# Altium integrated library Linear Technology Power Management LED Driver ICs.IntLib: 490 symbols (part 38 of 48)
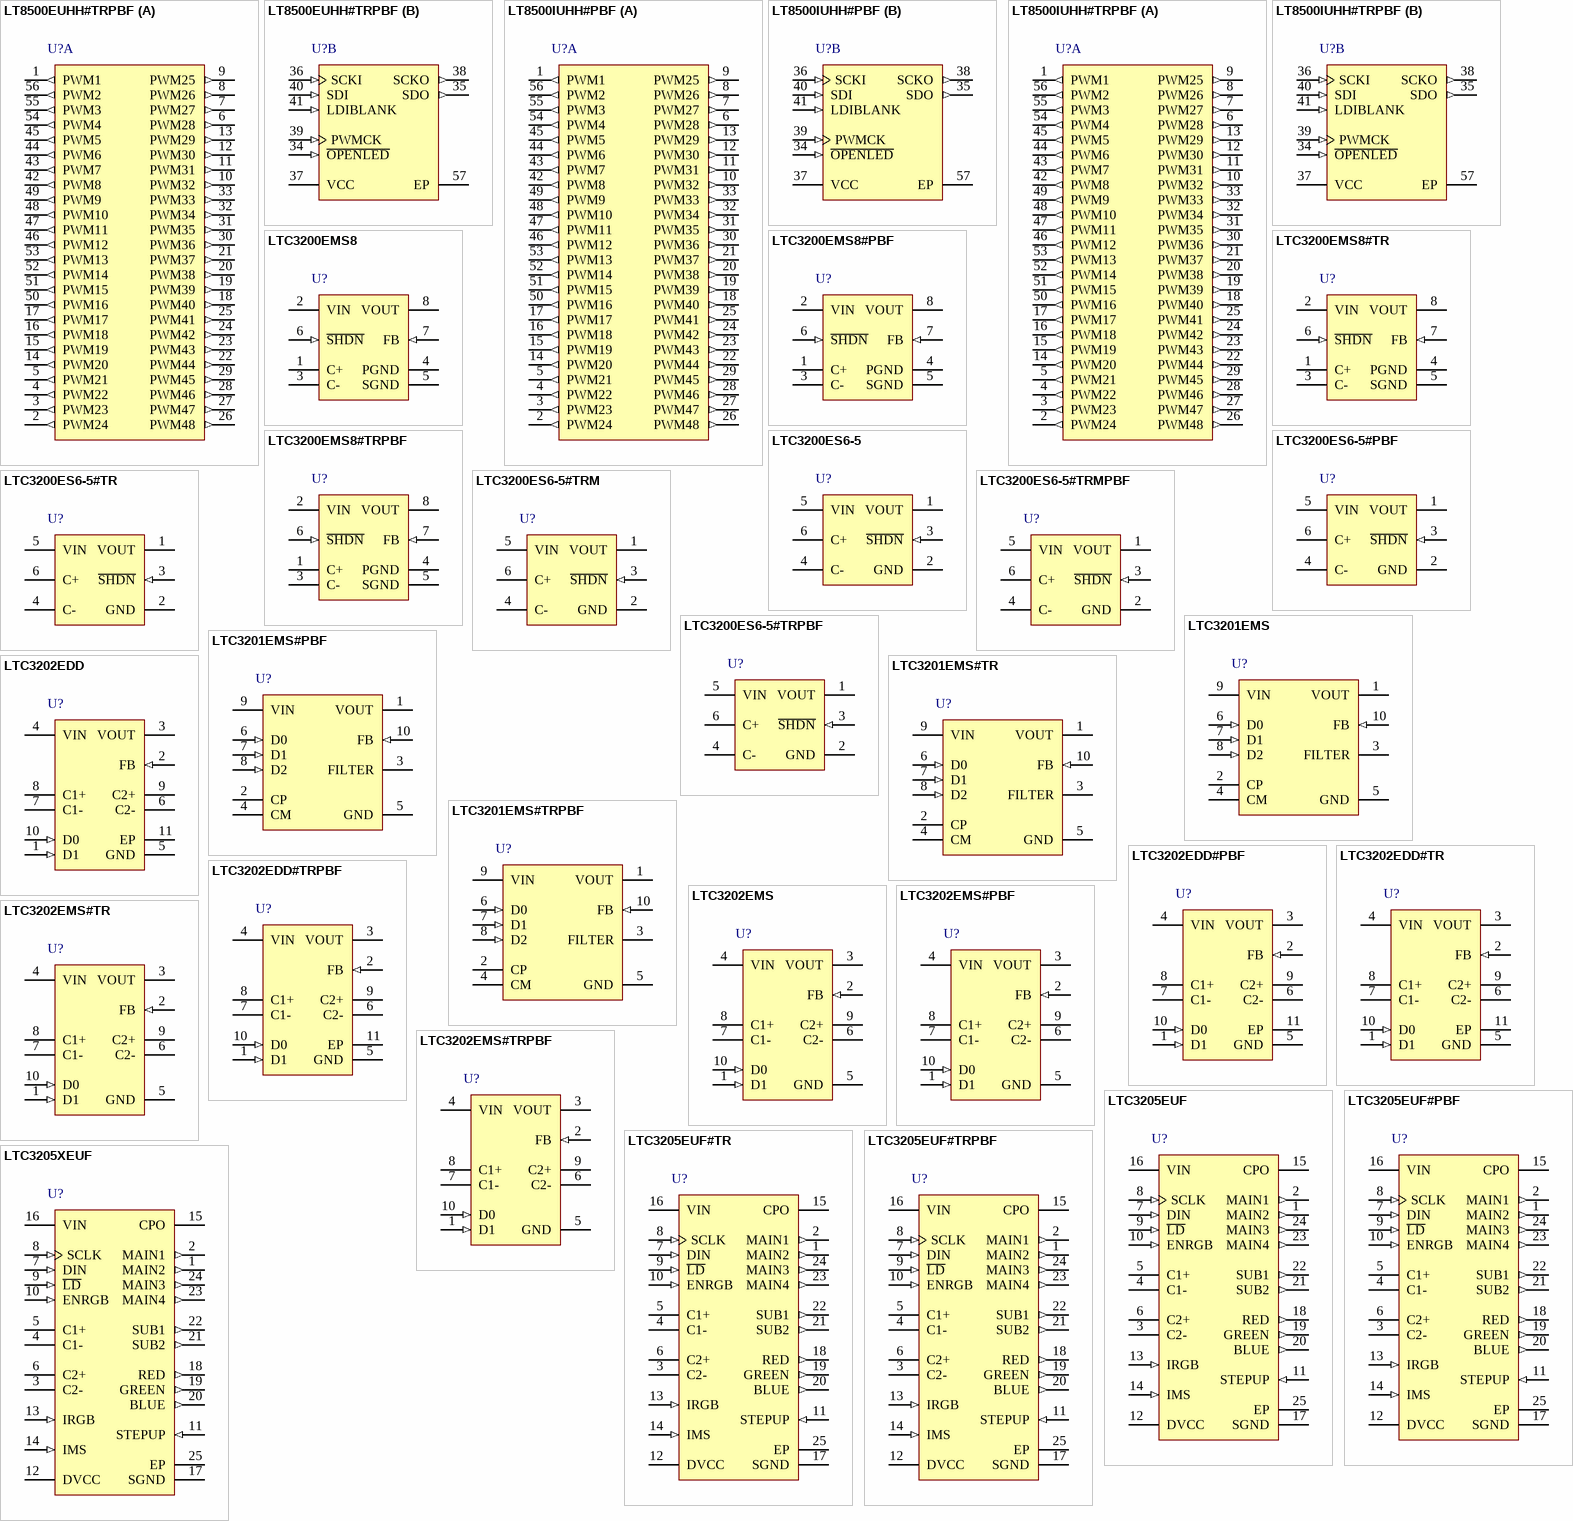
[diagram p57: symbols LT8500EUHH#TRPBF to LTC3205XEUF]

## LTC3205EUF#TRPBF
designator U?
Drives 4 Main LEDs, 2 Sub Display, 1 RGB, 2.8 to 4.5 V Vin, 4.5 V Vout MAX, 24-pin QFN (UF-24), -40 to 85 degC, Pb-Free, Tape and Reel; Manufacturer: Linear Technology; PartNumber: LTC3205EUF#TRPBF; Topology: Charge Pump, LED Driver; Vin Min(V): 2.8; PackageVersion: Rev. B, 02/2012; PackageReference: UF24; PackageDescription: 24-Pin Plastic QFN, Body 4 x 4 mm, Pitch 0.5 mm; Supplier 1: Digi-Key; Supplier Part Number 1: LTC3205EUF#TRPBF-ND; Packing: Tape and Reel; RoHS: TRUE; Mounting Technology: Surface Mount; Code_JEDEC: MO-220; ComponentLink1Description: Manufacturer URL; ComponentLink1URL: http://www.linear.com/; ComponentLink2Description: Datasheet; ComponentLink2URL: http://cds.linear.com/docs/en/datasheet/3205f.pdf; ComponentLink3Description: Package Specification; ComponentLink3URL: http://cds.linear.com/docs/en/packaging/%28UF24%29%20QFN%2005-08-1697%20Rev%20B.pdf
footprint LT-UF-24_N (QFN, 24-Leads, Body 4.1x4.1mm, Pitch 0.5mm, Thermal Pad 2.45x2.45mm, IPC Medium Density)
footprint LT-UF-24_L (QFN, 24-Leads, Body 4.1x4.1mm, Pitch 0.5mm, Thermal Pad 2.45x2.45mm, IPC High Density)
footprint LT-UF-24_M (QFN, 24-Leads, Body 4.1x4.1mm, Pitch 0.5mm, Thermal Pad 2.45x2.45mm, IPC Low Density)
pins: 1 MAIN2 (out) "Current Source Outputs for the Main Display White LEDs. The current for the main display is controlled by the resistor on the IMS pin. The LEDs on the main display can be set to 100%, 50%, 25% or 0% of full-scale programmed (See Datasheet)", 2 MAIN1 (out) "Current Source Outputs for the Main Display White LEDs. The current for the main display is controlled by the resistor on the IMS pin. The LEDs on the main display can be set to 100%, 50%, 25% or 0% of full-scale programmed (See Datasheet)", 3 C2- "Charge Pump Flying Capacitor Pins. A 1uF X7R or X5R ceramic capacitor should be connected from C1+ to C1- and another from C2+ to C2-.", 4 C1- "Charge Pump Flying Capacitor Pins. A 1uF X7R or X5R ceramic capacitor should be connected from C1+ to C1- and another from C2+ to C2-.", 5 C1+ "Charge Pump Flying Capacitor Pins. A 1uF X7R or X5R ceramic capacitor should be connected from C1+ to C1- and another from C2+ to C2-.", 6 C2+ "Charge Pump Flying Capacitor Pins. A 1uF X7R or X5R ceramic capacitor should be connected from C1+ to C1- and another from C2+ to C2-.", 7 DIN (in) "Input Data for the 16-Bit Serial Port. Serial data is shifted in one bit per clock to control the LTC3205 (see Table 1). The logic level for DIN is referenced to DVCC.", 8 SCLK (in) "Clock Input for the 16-Bit Serial Port (see Figure 3). The logic level for SCLK is referenced to DVCC.", 9 ~{LD} (in) "Load Input for the 16-Bit Serial Port. Command data is loaded into the command latch on the falling edge of L\D\ (see Figure 3). The logic level for L\D\ is referenced to DVCC.", 10 ENRGB (in) "This pin is used to enable and disable the red, green and blue current sources. Once ENRGB is brought high, the LTC3205 illuminates the RGB display with the color combination that was previously programmed via the serial (See Datasheet)", 11 STEPUP (in) "A logic high on this pin forces the LTC3205’s charge pump to operate in 2:3 step-up mode, thereby eliminating any possibility of the device switching from 1:1 mode to 2:3 mode during critical communication periods. Th(See Datasheet)", 12 DVCC (power) "This pin sets the logic reference level of the LTC3205.", 13 IRGB (in) "This pin controls the amount of LED current at the RED, GREEN and BLUE LED pins. The IRGB pin servos to 1.223V when there is a resistor to ground. The current in the RED, GREEN and BLUE LEDs will be 400 times the current at (See Datasheet)", 14 IMS (in) "This pin controls the maximum amount of LED current in both the main and sub LED displays. The IMS pin servos to 1.223V when there is a resistor to ground. The currents in the main and sub display LEDs will be 100, 200 or (See Datasheet)", 15 CPO (power) "Output of the Charge Pump. This output should be used to power white, blue and "ture" green LEDs. Red LEDs can be powered from VIN or CPO. An X5R or X7R low impedance (ceramic) 1uF charge storage capacitor is required(See Datasheet)", 16 VIN (power) "Supply Voltage for the Charge Pump. The VIN pin should be connected directly to the battery and bypassed with a 1uF X5R or X7R ceramic capacitor.", 17 SGND (power) "Ground for the Control Logic. This pin should be connected directly to a low impedance ground plane.", 18 RED (out) "Current Source Outputs for the RGB Illuminator LEDs. The currents for the RGB LEDs are controlled by the resistor on the IRGB pin. The RGB LEDs can independently be set to any duty cycle from 0/15 through 15/15 under (See Datasheet)", 19 GREEN (out) "Current Source Outputs for the RGB Illuminator LEDs. The currents for the RGB LEDs are controlled by the resistor on the IRGB pin. The RGB LEDs can independently be set to any duty cycle from 0/15 through 15/15 under (See Datasheet)", 20 BLUE (out) "Current Source Outputs for the RGB Illuminator LEDs. The currents for the RGB LEDs are controlled by the resistor on the IRGB pin. The RGB LEDs can independently be set to any duty cycle from 0/15 through 15/15 under (See Datasheet)", 21 SUB2 (out) "Current Source Outputs for the Sub Display White LEDs. The current for the sub display is controlled by the resistor on the IMS pin. The LEDs on the sub display can be set to 100%, 50%, 25% or 0% of full scale under software (See Datasheet)", 22 SUB1 (out) "Current Source Outputs for the Sub Display White LEDs. The current for the sub display is controlled by the resistor on the IMS pin. The LEDs on the sub display can be set to 100%, 50%, 25% or 0% of full scale under software (See Datasheet)", 23 MAIN4 (out) "Current Source Outputs for the Main Display White LEDs. The current for the main display is controlled by the resistor on the IMS pin. The LEDs on the main display can be set to 100%, 50%, 25% or 0% of full-scale programmed (See Datasheet)", 24 MAIN3 (out) "Current Source Outputs for the Main Display White LEDs. The current for the main display is controlled by the resistor on the IMS pin. The LEDs on the main display can be set to 100%, 50%, 25% or 0% of full-scale programmed (See Datasheet)", 25 EP (power) "Power Ground for the Charge Pump. The exposed pad should be connected directly to a low impedance ground plane."

## LTC3205XEUF
designator U?
Drives 4 Main LEDs, 2 Sub Display, 1 RGB, 2.8 to 4.5 V Vin, 4.5 V Vout MAX, 24-pin QFN (UF-24), -40 to 85 degC; Manufacturer: Linear Technology; PartNumber: LTC3205XEUF; Topology: Charge Pump, LED Driver; Vin Min(V): 2.8; PackageVersion: Rev. B, 02/2012; PackageReference: UF24; PackageDescription: 24-Pin Plastic QFN, Body 4 x 4 mm, Pitch 0.5 mm; RoHS: FALSE; Mounting Technology: Surface Mount; Code_JEDEC: MO-220; ComponentLink1Description: Manufacturer URL; ComponentLink1URL: http://www.linear.com/; ComponentLink2Description: Datasheet; ComponentLink2URL: http://cds.linear.com/docs/en/datasheet/3205f.pdf; ComponentLink3Description: Package Specification; ComponentLink3URL: http://cds.linear.com/docs/en/packaging/%28UF24%29%20QFN%2005-08-1697%20Rev%20B.pdf
footprint LT-UF-24_N (QFN, 24-Leads, Body 4.1x4.1mm, Pitch 0.5mm, Thermal Pad 2.45x2.45mm, IPC Medium Density)
footprint LT-UF-24_L (QFN, 24-Leads, Body 4.1x4.1mm, Pitch 0.5mm, Thermal Pad 2.45x2.45mm, IPC High Density)
footprint LT-UF-24_M (QFN, 24-Leads, Body 4.1x4.1mm, Pitch 0.5mm, Thermal Pad 2.45x2.45mm, IPC Low Density)
pins: 1 MAIN2 (out) "Current Source Outputs for the Main Display White LEDs. The current for the main display is controlled by the resistor on the IMS pin. The LEDs on the main display can be set to 100%, 50%, 25% or 0% of full-scale programmed (See Datasheet)", 2 MAIN1 (out) "Current Source Outputs for the Main Display White LEDs. The current for the main display is controlled by the resistor on the IMS pin. The LEDs on the main display can be set to 100%, 50%, 25% or 0% of full-scale programmed (See Datasheet)", 3 C2- "Charge Pump Flying Capacitor Pins. A 1uF X7R or X5R ceramic capacitor should be connected from C1+ to C1- and another from C2+ to C2-.", 4 C1- "Charge Pump Flying Capacitor Pins. A 1uF X7R or X5R ceramic capacitor should be connected from C1+ to C1- and another from C2+ to C2-.", 5 C1+ "Charge Pump Flying Capacitor Pins. A 1uF X7R or X5R ceramic capacitor should be connected from C1+ to C1- and another from C2+ to C2-.", 6 C2+ "Charge Pump Flying Capacitor Pins. A 1uF X7R or X5R ceramic capacitor should be connected from C1+ to C1- and another from C2+ to C2-.", 7 DIN (in) "Input Data for the 16-Bit Serial Port. Serial data is shifted in one bit per clock to control the LTC3205 (see Table 1). The logic level for DIN is referenced to DVCC.", 8 SCLK (in) "Clock Input for the 16-Bit Serial Port (see Figure 3). The logic level for SCLK is referenced to DVCC.", 9 ~{LD} (in) "Load Input for the 16-Bit Serial Port. Command data is loaded into the command latch on the falling edge of L\D\ (see Figure 3). The logic level for L\D\ is referenced to DVCC.", 10 ENRGB (in) "This pin is used to enable and disable the red, green and blue current sources. Once ENRGB is brought high, the LTC3205 illuminates the RGB display with the color combination that was previously programmed via the serial (See Datasheet)", 11 STEPUP (in) "A logic high on this pin forces the LTC3205’s charge pump to operate in 2:3 step-up mode, thereby eliminating any possibility of the device switching from 1:1 mode to 2:3 mode during critical communication periods. Th(See Datasheet)", 12 DVCC (power) "This pin sets the logic reference level of the LTC3205.", 13 IRGB (in) "This pin controls the amount of LED current at the RED, GREEN and BLUE LED pins. The IRGB pin servos to 1.223V when there is a resistor to ground. The current in the RED, GREEN and BLUE LEDs will be 400 times the current at (See Datasheet)", 14 IMS (in) "This pin controls the maximum amount of LED current in both the main and sub LED displays. The IMS pin servos to 1.223V when there is a resistor to ground. The currents in the main and sub display LEDs will be 100, 200 or (See Datasheet)", 15 CPO (power) "Output of the Charge Pump. This output should be used to power white, blue and "ture" green LEDs. Red LEDs can be powered from VIN or CPO. An X5R or X7R low impedance (ceramic) 1uF charge storage capacitor is required(See Datasheet)", 16 VIN (power) "Supply Voltage for the Charge Pump. The VIN pin should be connected directly to the battery and bypassed with a 1uF X5R or X7R ceramic capacitor.", 17 SGND (power) "Ground for the Control Logic. This pin should be connected directly to a low impedance ground plane.", 18 RED (out) "Current Source Outputs for the RGB Illuminator LEDs. The currents for the RGB LEDs are controlled by the resistor on the IRGB pin. The RGB LEDs can independently be set to any duty cycle from 0/15 through 15/15 under (See Datasheet)", 19 GREEN (out) "Current Source Outputs for the RGB Illuminator LEDs. The currents for the RGB LEDs are controlled by the resistor on the IRGB pin. The RGB LEDs can independently be set to any duty cycle from 0/15 through 15/15 under (See Datasheet)", 20 BLUE (out) "Current Source Outputs for the RGB Illuminator LEDs. The currents for the RGB LEDs are controlled by the resistor on the IRGB pin. The RGB LEDs can independently be set to any duty cycle from 0/15 through 15/15 under (See Datasheet)", 21 SUB2 (out) "Current Source Outputs for the Sub Display White LEDs. The current for the sub display is controlled by the resistor on the IMS pin. The LEDs on the sub display can be set to 100%, 50%, 25% or 0% of full scale under software (See Datasheet)", 22 SUB1 (out) "Current Source Outputs for the Sub Display White LEDs. The current for the sub display is controlled by the resistor on the IMS pin. The LEDs on the sub display can be set to 100%, 50%, 25% or 0% of full scale under software (See Datasheet)", 23 MAIN4 (out) "Current Source Outputs for the Main Display White LEDs. The current for the main display is controlled by the resistor on the IMS pin. The LEDs on the main display can be set to 100%, 50%, 25% or 0% of full-scale programmed (See Datasheet)", 24 MAIN3 (out) "Current Source Outputs for the Main Display White LEDs. The current for the main display is controlled by the resistor on the IMS pin. The LEDs on the main display can be set to 100%, 50%, 25% or 0% of full-scale programmed (See Datasheet)", 25 EP (power) "Power Ground for the Charge Pump. The exposed pad should be connected directly to a low impedance ground plane."

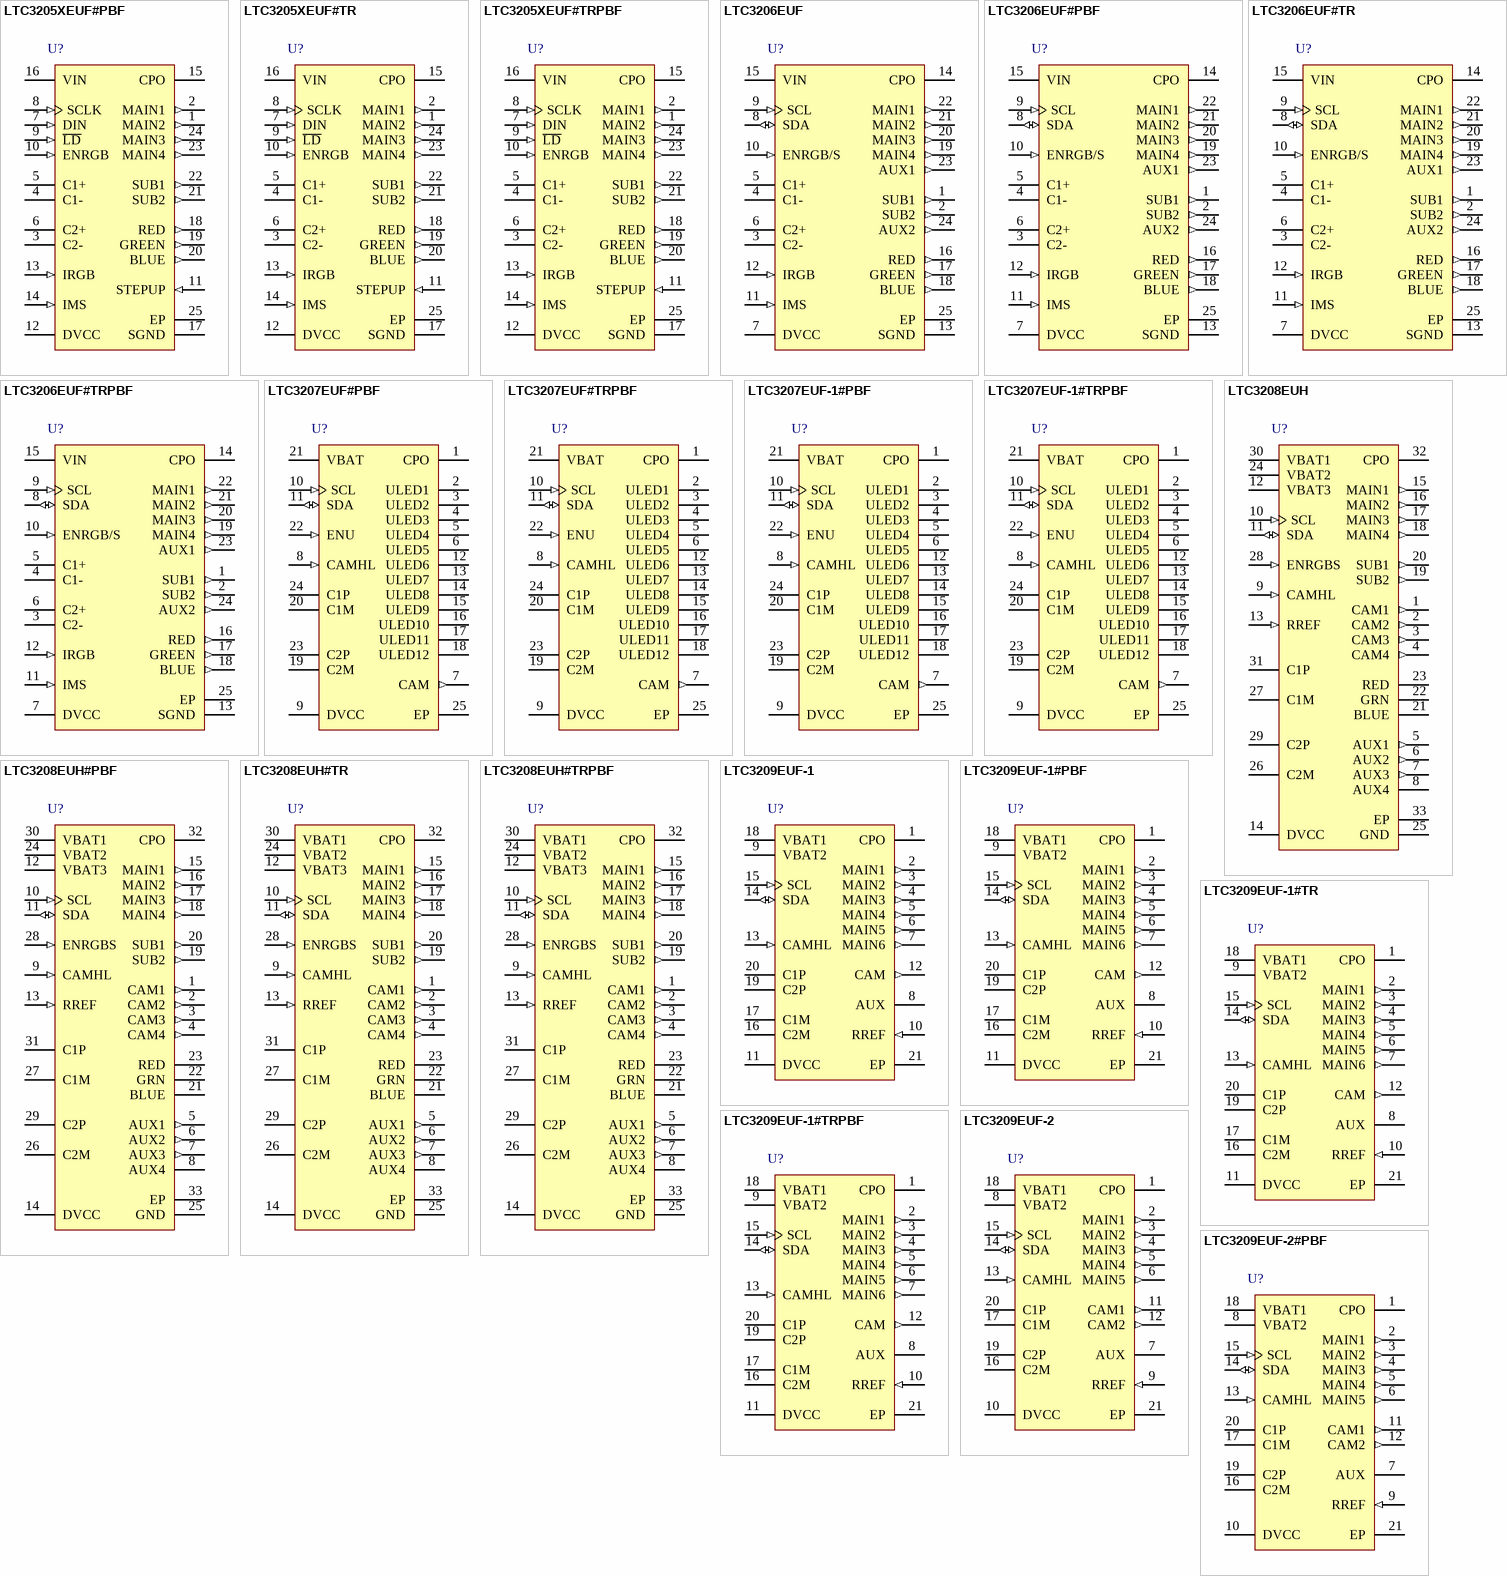
[diagram p16: symbols LTC3205XEUF#PBF to LTC3209EUF-2#PBF]

## LTC3205XEUF#PBF
designator U?
Drives 4 Main LEDs, 2 Sub Display, 1 RGB, 2.8 to 4.5 V Vin, 4.5 V Vout MAX, 24-pin QFN (UF-24), -40 to 85 degC, Pb-Free; Manufacturer: Linear Technology; PartNumber: LTC3205XEUF#PBF; Topology: Charge Pump, LED Driver; Vin Min(V): 2.8; PackageVersion: Rev. B, 02/2012; PackageReference: UF24; PackageDescription: 24-Pin Plastic QFN, Body 4 x 4 mm, Pitch 0.5 mm; Supplier 1: Digi-Key; Supplier Part Number 1: LTC3205XEUF#PBF-ND; RoHS: TRUE; Mounting Technology: Surface Mount; Code_JEDEC: MO-220; ComponentLink1Description: Manufacturer URL; ComponentLink1URL: http://www.linear.com/; ComponentLink2Description: Datasheet; ComponentLink2URL: http://cds.linear.com/docs/en/datasheet/3205f.pdf; ComponentLink3Description: Package Specification; ComponentLink3URL: http://cds.linear.com/docs/en/packaging/%28UF24%29%20QFN%2005-08-1697%20Rev%20B.pdf
footprint LT-UF-24_N (QFN, 24-Leads, Body 4.1x4.1mm, Pitch 0.5mm, Thermal Pad 2.45x2.45mm, IPC Medium Density)
footprint LT-UF-24_L (QFN, 24-Leads, Body 4.1x4.1mm, Pitch 0.5mm, Thermal Pad 2.45x2.45mm, IPC High Density)
footprint LT-UF-24_M (QFN, 24-Leads, Body 4.1x4.1mm, Pitch 0.5mm, Thermal Pad 2.45x2.45mm, IPC Low Density)
pins: 1 MAIN2 (out) "Current Source Outputs for the Main Display White LEDs. The current for the main display is controlled by the resistor on the IMS pin. The LEDs on the main display can be set to 100%, 50%, 25% or 0% of full-scale programmed (See Datasheet)", 2 MAIN1 (out) "Current Source Outputs for the Main Display White LEDs. The current for the main display is controlled by the resistor on the IMS pin. The LEDs on the main display can be set to 100%, 50%, 25% or 0% of full-scale programmed (See Datasheet)", 3 C2- "Charge Pump Flying Capacitor Pins. A 1uF X7R or X5R ceramic capacitor should be connected from C1+ to C1- and another from C2+ to C2-.", 4 C1- "Charge Pump Flying Capacitor Pins. A 1uF X7R or X5R ceramic capacitor should be connected from C1+ to C1- and another from C2+ to C2-.", 5 C1+ "Charge Pump Flying Capacitor Pins. A 1uF X7R or X5R ceramic capacitor should be connected from C1+ to C1- and another from C2+ to C2-.", 6 C2+ "Charge Pump Flying Capacitor Pins. A 1uF X7R or X5R ceramic capacitor should be connected from C1+ to C1- and another from C2+ to C2-.", 7 DIN (in) "Input Data for the 16-Bit Serial Port. Serial data is shifted in one bit per clock to control the LTC3205 (see Table 1). The logic level for DIN is referenced to DVCC.", 8 SCLK (in) "Clock Input for the 16-Bit Serial Port (see Figure 3). The logic level for SCLK is referenced to DVCC.", 9 ~{LD} (in) "Load Input for the 16-Bit Serial Port. Command data is loaded into the command latch on the falling edge of L\D\ (see Figure 3). The logic level for L\D\ is referenced to DVCC.", 10 ENRGB (in) "This pin is used to enable and disable the red, green and blue current sources. Once ENRGB is brought high, the LTC3205 illuminates the RGB display with the color combination that was previously programmed via the serial (See Datasheet)", 11 STEPUP (in) "A logic high on this pin forces the LTC3205’s charge pump to operate in 2:3 step-up mode, thereby eliminating any possibility of the device switching from 1:1 mode to 2:3 mode during critical communication periods. Th(See Datasheet)", 12 DVCC (power) "This pin sets the logic reference level of the LTC3205.", 13 IRGB (in) "This pin controls the amount of LED current at the RED, GREEN and BLUE LED pins. The IRGB pin servos to 1.223V when there is a resistor to ground. The current in the RED, GREEN and BLUE LEDs will be 400 times the current at (See Datasheet)", 14 IMS (in) "This pin controls the maximum amount of LED current in both the main and sub LED displays. The IMS pin servos to 1.223V when there is a resistor to ground. The currents in the main and sub display LEDs will be 100, 200 or (See Datasheet)", 15 CPO (power) "Output of the Charge Pump. This output should be used to power white, blue and "ture" green LEDs. Red LEDs can be powered from VIN or CPO. An X5R or X7R low impedance (ceramic) 1uF charge storage capacitor is required(See Datasheet)", 16 VIN (power) "Supply Voltage for the Charge Pump. The VIN pin should be connected directly to the battery and bypassed with a 1uF X5R or X7R ceramic capacitor.", 17 SGND (power) "Ground for the Control Logic. This pin should be connected directly to a low impedance ground plane.", 18 RED (out) "Current Source Outputs for the RGB Illuminator LEDs. The currents for the RGB LEDs are controlled by the resistor on the IRGB pin. The RGB LEDs can independently be set to any duty cycle from 0/15 through 15/15 under (See Datasheet)", 19 GREEN (out) "Current Source Outputs for the RGB Illuminator LEDs. The currents for the RGB LEDs are controlled by the resistor on the IRGB pin. The RGB LEDs can independently be set to any duty cycle from 0/15 through 15/15 under (See Datasheet)", 20 BLUE (out) "Current Source Outputs for the RGB Illuminator LEDs. The currents for the RGB LEDs are controlled by the resistor on the IRGB pin. The RGB LEDs can independently be set to any duty cycle from 0/15 through 15/15 under (See Datasheet)", 21 SUB2 (out) "Current Source Outputs for the Sub Display White LEDs. The current for the sub display is controlled by the resistor on the IMS pin. The LEDs on the sub display can be set to 100%, 50%, 25% or 0% of full scale under software (See Datasheet)", 22 SUB1 (out) "Current Source Outputs for the Sub Display White LEDs. The current for the sub display is controlled by the resistor on the IMS pin. The LEDs on the sub display can be set to 100%, 50%, 25% or 0% of full scale under software (See Datasheet)", 23 MAIN4 (out) "Current Source Outputs for the Main Display White LEDs. The current for the main display is controlled by the resistor on the IMS pin. The LEDs on the main display can be set to 100%, 50%, 25% or 0% of full-scale programmed (See Datasheet)", 24 MAIN3 (out) "Current Source Outputs for the Main Display White LEDs. The current for the main display is controlled by the resistor on the IMS pin. The LEDs on the main display can be set to 100%, 50%, 25% or 0% of full-scale programmed (See Datasheet)", 25 EP (power) "Power Ground for the Charge Pump. The exposed pad should be connected directly to a low impedance ground plane."

## LTC3205XEUF#TR
designator U?
Drives 4 Main LEDs, 2 Sub Display, 1 RGB, 2.8 to 4.5 V Vin, 4.5 V Vout MAX, 24-pin QFN (UF-24), -40 to 85 degC, Tape and Reel; Manufacturer: Linear Technology; PartNumber: LTC3205XEUF#TR; Topology: Charge Pump, LED Driver; Vin Min(V): 2.8; PackageVersion: Rev. B, 02/2012; PackageReference: UF24; PackageDescription: 24-Pin Plastic QFN, Body 4 x 4 mm, Pitch 0.5 mm; Packing: Tape and Reel; RoHS: FALSE; Mounting Technology: Surface Mount; Code_JEDEC: MO-220; ComponentLink1Description: Manufacturer URL; ComponentLink1URL: http://www.linear.com/; ComponentLink2Description: Datasheet; ComponentLink2URL: http://cds.linear.com/docs/en/datasheet/3205f.pdf; ComponentLink3Description: Package Specification; ComponentLink3URL: http://cds.linear.com/docs/en/packaging/%28UF24%29%20QFN%2005-08-1697%20Rev%20B.pdf
footprint LT-UF-24_N (QFN, 24-Leads, Body 4.1x4.1mm, Pitch 0.5mm, Thermal Pad 2.45x2.45mm, IPC Medium Density)
footprint LT-UF-24_L (QFN, 24-Leads, Body 4.1x4.1mm, Pitch 0.5mm, Thermal Pad 2.45x2.45mm, IPC High Density)
footprint LT-UF-24_M (QFN, 24-Leads, Body 4.1x4.1mm, Pitch 0.5mm, Thermal Pad 2.45x2.45mm, IPC Low Density)
pins: 1 MAIN2 (out) "Current Source Outputs for the Main Display White LEDs. The current for the main display is controlled by the resistor on the IMS pin. The LEDs on the main display can be set to 100%, 50%, 25% or 0% of full-scale programmed (See Datasheet)", 2 MAIN1 (out) "Current Source Outputs for the Main Display White LEDs. The current for the main display is controlled by the resistor on the IMS pin. The LEDs on the main display can be set to 100%, 50%, 25% or 0% of full-scale programmed (See Datasheet)", 3 C2- "Charge Pump Flying Capacitor Pins. A 1uF X7R or X5R ceramic capacitor should be connected from C1+ to C1- and another from C2+ to C2-.", 4 C1- "Charge Pump Flying Capacitor Pins. A 1uF X7R or X5R ceramic capacitor should be connected from C1+ to C1- and another from C2+ to C2-.", 5 C1+ "Charge Pump Flying Capacitor Pins. A 1uF X7R or X5R ceramic capacitor should be connected from C1+ to C1- and another from C2+ to C2-.", 6 C2+ "Charge Pump Flying Capacitor Pins. A 1uF X7R or X5R ceramic capacitor should be connected from C1+ to C1- and another from C2+ to C2-.", 7 DIN (in) "Input Data for the 16-Bit Serial Port. Serial data is shifted in one bit per clock to control the LTC3205 (see Table 1). The logic level for DIN is referenced to DVCC.", 8 SCLK (in) "Clock Input for the 16-Bit Serial Port (see Figure 3). The logic level for SCLK is referenced to DVCC.", 9 ~{LD} (in) "Load Input for the 16-Bit Serial Port. Command data is loaded into the command latch on the falling edge of L\D\ (see Figure 3). The logic level for L\D\ is referenced to DVCC.", 10 ENRGB (in) "This pin is used to enable and disable the red, green and blue current sources. Once ENRGB is brought high, the LTC3205 illuminates the RGB display with the color combination that was previously programmed via the serial (See Datasheet)", 11 STEPUP (in) "A logic high on this pin forces the LTC3205’s charge pump to operate in 2:3 step-up mode, thereby eliminating any possibility of the device switching from 1:1 mode to 2:3 mode during critical communication periods. Th(See Datasheet)", 12 DVCC (power) "This pin sets the logic reference level of the LTC3205.", 13 IRGB (in) "This pin controls the amount of LED current at the RED, GREEN and BLUE LED pins. The IRGB pin servos to 1.223V when there is a resistor to ground. The current in the RED, GREEN and BLUE LEDs will be 400 times the current at (See Datasheet)", 14 IMS (in) "This pin controls the maximum amount of LED current in both the main and sub LED displays. The IMS pin servos to 1.223V when there is a resistor to ground. The currents in the main and sub display LEDs will be 100, 200 or (See Datasheet)", 15 CPO (power) "Output of the Charge Pump. This output should be used to power white, blue and "ture" green LEDs. Red LEDs can be powered from VIN or CPO. An X5R or X7R low impedance (ceramic) 1uF charge storage capacitor is required(See Datasheet)", 16 VIN (power) "Supply Voltage for the Charge Pump. The VIN pin should be connected directly to the battery and bypassed with a 1uF X5R or X7R ceramic capacitor.", 17 SGND (power) "Ground for the Control Logic. This pin should be connected directly to a low impedance ground plane.", 18 RED (out) "Current Source Outputs for the RGB Illuminator LEDs. The currents for the RGB LEDs are controlled by the resistor on the IRGB pin. The RGB LEDs can independently be set to any duty cycle from 0/15 through 15/15 under (See Datasheet)", 19 GREEN (out) "Current Source Outputs for the RGB Illuminator LEDs. The currents for the RGB LEDs are controlled by the resistor on the IRGB pin. The RGB LEDs can independently be set to any duty cycle from 0/15 through 15/15 under (See Datasheet)", 20 BLUE (out) "Current Source Outputs for the RGB Illuminator LEDs. The currents for the RGB LEDs are controlled by the resistor on the IRGB pin. The RGB LEDs can independently be set to any duty cycle from 0/15 through 15/15 under (See Datasheet)", 21 SUB2 (out) "Current Source Outputs for the Sub Display White LEDs. The current for the sub display is controlled by the resistor on the IMS pin. The LEDs on the sub display can be set to 100%, 50%, 25% or 0% of full scale under software (See Datasheet)", 22 SUB1 (out) "Current Source Outputs for the Sub Display White LEDs. The current for the sub display is controlled by the resistor on the IMS pin. The LEDs on the sub display can be set to 100%, 50%, 25% or 0% of full scale under software (See Datasheet)", 23 MAIN4 (out) "Current Source Outputs for the Main Display White LEDs. The current for the main display is controlled by the resistor on the IMS pin. The LEDs on the main display can be set to 100%, 50%, 25% or 0% of full-scale programmed (See Datasheet)", 24 MAIN3 (out) "Current Source Outputs for the Main Display White LEDs. The current for the main display is controlled by the resistor on the IMS pin. The LEDs on the main display can be set to 100%, 50%, 25% or 0% of full-scale programmed (See Datasheet)", 25 EP (power) "Power Ground for the Charge Pump. The exposed pad should be connected directly to a low impedance ground plane."

## LTC3205XEUF#TRPBF
designator U?
Drives 4 Main LEDs, 2 Sub Display, 1 RGB, 2.8 to 4.5 V Vin, 4.5 V Vout MAX, 24-pin QFN (UF-24), -40 to 85 degC, Pb-Free, Tape and Reel; Manufacturer: Linear Technology; PartNumber: LTC3205XEUF#TRPBF; Topology: Charge Pump, LED Driver; Vin Min(V): 2.8; PackageVersion: Rev. B, 02/2012; PackageReference: UF24; PackageDescription: 24-Pin Plastic QFN, Body 4 x 4 mm, Pitch 0.5 mm; Supplier 1: Digi-Key; Supplier Part Number 1: LTC3205XEUF#TRPBF-ND; Packing: Tape and Reel; RoHS: TRUE; Mounting Technology: Surface Mount; Code_JEDEC: MO-220; ComponentLink1Description: Manufacturer URL; ComponentLink1URL: http://www.linear.com/; ComponentLink2Description: Datasheet; ComponentLink2URL: http://cds.linear.com/docs/en/datasheet/3205f.pdf; ComponentLink3Description: Package Specification; ComponentLink3URL: http://cds.linear.com/docs/en/packaging/%28UF24%29%20QFN%2005-08-1697%20Rev%20B.pdf
footprint LT-UF-24_N (QFN, 24-Leads, Body 4.1x4.1mm, Pitch 0.5mm, Thermal Pad 2.45x2.45mm, IPC Medium Density)
footprint LT-UF-24_L (QFN, 24-Leads, Body 4.1x4.1mm, Pitch 0.5mm, Thermal Pad 2.45x2.45mm, IPC High Density)
footprint LT-UF-24_M (QFN, 24-Leads, Body 4.1x4.1mm, Pitch 0.5mm, Thermal Pad 2.45x2.45mm, IPC Low Density)
pins: 1 MAIN2 (out) "Current Source Outputs for the Main Display White LEDs. The current for the main display is controlled by the resistor on the IMS pin. The LEDs on the main display can be set to 100%, 50%, 25% or 0% of full-scale programmed (See Datasheet)", 2 MAIN1 (out) "Current Source Outputs for the Main Display White LEDs. The current for the main display is controlled by the resistor on the IMS pin. The LEDs on the main display can be set to 100%, 50%, 25% or 0% of full-scale programmed (See Datasheet)", 3 C2- "Charge Pump Flying Capacitor Pins. A 1uF X7R or X5R ceramic capacitor should be connected from C1+ to C1- and another from C2+ to C2-.", 4 C1- "Charge Pump Flying Capacitor Pins. A 1uF X7R or X5R ceramic capacitor should be connected from C1+ to C1- and another from C2+ to C2-.", 5 C1+ "Charge Pump Flying Capacitor Pins. A 1uF X7R or X5R ceramic capacitor should be connected from C1+ to C1- and another from C2+ to C2-.", 6 C2+ "Charge Pump Flying Capacitor Pins. A 1uF X7R or X5R ceramic capacitor should be connected from C1+ to C1- and another from C2+ to C2-.", 7 DIN (in) "Input Data for the 16-Bit Serial Port. Serial data is shifted in one bit per clock to control the LTC3205 (see Table 1). The logic level for DIN is referenced to DVCC.", 8 SCLK (in) "Clock Input for the 16-Bit Serial Port (see Figure 3). The logic level for SCLK is referenced to DVCC.", 9 ~{LD} (in) "Load Input for the 16-Bit Serial Port. Command data is loaded into the command latch on the falling edge of L\D\ (see Figure 3). The logic level for L\D\ is referenced to DVCC.", 10 ENRGB (in) "This pin is used to enable and disable the red, green and blue current sources. Once ENRGB is brought high, the LTC3205 illuminates the RGB display with the color combination that was previously programmed via the serial (See Datasheet)", 11 STEPUP (in) "A logic high on this pin forces the LTC3205’s charge pump to operate in 2:3 step-up mode, thereby eliminating any possibility of the device switching from 1:1 mode to 2:3 mode during critical communication periods. Th(See Datasheet)", 12 DVCC (power) "This pin sets the logic reference level of the LTC3205.", 13 IRGB (in) "This pin controls the amount of LED current at the RED, GREEN and BLUE LED pins. The IRGB pin servos to 1.223V when there is a resistor to ground. The current in the RED, GREEN and BLUE LEDs will be 400 times the current at (See Datasheet)", 14 IMS (in) "This pin controls the maximum amount of LED current in both the main and sub LED displays. The IMS pin servos to 1.223V when there is a resistor to ground. The currents in the main and sub display LEDs will be 100, 200 or (See Datasheet)", 15 CPO (power) "Output of the Charge Pump. This output should be used to power white, blue and "ture" green LEDs. Red LEDs can be powered from VIN or CPO. An X5R or X7R low impedance (ceramic) 1uF charge storage capacitor is required(See Datasheet)", 16 VIN (power) "Supply Voltage for the Charge Pump. The VIN pin should be connected directly to the battery and bypassed with a 1uF X5R or X7R ceramic capacitor.", 17 SGND (power) "Ground for the Control Logic. This pin should be connected directly to a low impedance ground plane.", 18 RED (out) "Current Source Outputs for the RGB Illuminator LEDs. The currents for the RGB LEDs are controlled by the resistor on the IRGB pin. The RGB LEDs can independently be set to any duty cycle from 0/15 through 15/15 under (See Datasheet)", 19 GREEN (out) "Current Source Outputs for the RGB Illuminator LEDs. The currents for the RGB LEDs are controlled by the resistor on the IRGB pin. The RGB LEDs can independently be set to any duty cycle from 0/15 through 15/15 under (See Datasheet)", 20 BLUE (out) "Current Source Outputs for the RGB Illuminator LEDs. The currents for the RGB LEDs are controlled by the resistor on the IRGB pin. The RGB LEDs can independently be set to any duty cycle from 0/15 through 15/15 under (See Datasheet)", 21 SUB2 (out) "Current Source Outputs for the Sub Display White LEDs. The current for the sub display is controlled by the resistor on the IMS pin. The LEDs on the sub display can be set to 100%, 50%, 25% or 0% of full scale under software (See Datasheet)", 22 SUB1 (out) "Current Source Outputs for the Sub Display White LEDs. The current for the sub display is controlled by the resistor on the IMS pin. The LEDs on the sub display can be set to 100%, 50%, 25% or 0% of full scale under software (See Datasheet)", 23 MAIN4 (out) "Current Source Outputs for the Main Display White LEDs. The current for the main display is controlled by the resistor on the IMS pin. The LEDs on the main display can be set to 100%, 50%, 25% or 0% of full-scale programmed (See Datasheet)", 24 MAIN3 (out) "Current Source Outputs for the Main Display White LEDs. The current for the main display is controlled by the resistor on the IMS pin. The LEDs on the main display can be set to 100%, 50%, 25% or 0% of full-scale programmed (See Datasheet)", 25 EP (power) "Power Ground for the Charge Pump. The exposed pad should be connected directly to a low impedance ground plane."

## LTC3206EUF
designator U?
Drives 6 Main LEDs, 4 Sub Display, 1 RGB, 2.8 to 4.5 V Vin, 4.5 V Vout MAX, 24-pin QFN (UF-24), -40 to 85 degC; Manufacturer: Linear Technology; PartNumber: LTC3206EUF; Topology: Charge Pump, LED Driver; Vin Min(V): 2.8; PackageVersion: Rev. B, 02/2012; PackageReference: UF24; PackageDescription: 24-Pin Plastic QFN, Body 4 x 4 mm, Pitch 0.5 mm; Supplier 1: Digi-Key; Supplier Part Number 1: LTC3206EUF-ND; RoHS: FALSE; Mounting Technology: Surface Mount; Code_JEDEC: MO-220; ComponentLink1Description: Manufacturer URL; ComponentLink1URL: http://www.linear.com/; ComponentLink2Description: Datasheet; ComponentLink2URL: http://cds.linear.com/docs/en/datasheet/3206f.pdf; ComponentLink3Description: Package Specification; ComponentLink3URL: http://cds.linear.com/docs/en/packaging/%28UF24%29%20QFN%2005-08-1697%20Rev%20B.pdf
footprint LT-UF-24_N (QFN, 24-Leads, Body 4.1x4.1mm, Pitch 0.5mm, Thermal Pad 2.45x2.45mm, IPC Medium Density)
footprint LT-UF-24_L (QFN, 24-Leads, Body 4.1x4.1mm, Pitch 0.5mm, Thermal Pad 2.45x2.45mm, IPC High Density)
footprint LT-UF-24_M (QFN, 24-Leads, Body 4.1x4.1mm, Pitch 0.5mm, Thermal Pad 2.45x2.45mm, IPC Low Density)
pins: 1 SUB1 (out) "Current Source Outputs for the SUB Display White LEDs. The current for the SUB display is controlled by the resistor on the IMS pin.The LEDs on the SUB display can be set to exponentially increasing brightness levels from 0.(See Datasheet)", 2 SUB2 (out) "Current Source Outputs for the SUB Display White LEDs. The current for the SUB display is controlled by the resistor on the IMS pin.The LEDs on the SUB display can be set to exponentially increasing brightness levels from 0.(See Datasheet)", 3 C2- "Charge Pump Flying Capacitor Pins. A 2.2uF X7R or X5R ceramic capacitor should be connected from C1+ to C1- and another from C2+ to C2-.", 4 C1- "Charge Pump Flying Capacitor Pins. A 2.2uF X7R or X5R ceramic capacitor should be connected from C1+ to C1- and another from C2+ to C2-.", 5 C1+ "Charge Pump Flying Capacitor Pins. A 2.2uF X7R or X5R ceramic capacitor should be connected from C1+ to C1- and another from C2+ to C2-.", 6 C2+ "Charge Pump Flying Capacitor Pins. A 2.2uF X7R or X5R ceramic capacitor should be connected from C1+ to C1- and another from C2+ to C2-.", 7 DVCC (power) "This pin sets the logic reference level of the SDA, SCL and ENRGB/S pins.", 8 SDA (io) "Input Data for the I2C Serial Port. Serial data is shifted in one bit per clock to control the LTC3206 (see Figures 3 and 4). The logic level for SDA is referenced to DVCC.", 9 SCL (in) "Clock Input for the I2C Serial Port (see Figures 3 and 4). The logic level for SCL is referenced to DVCC.", 10 ENRGB/S (in) "This pin is used to enable and disable either the RED, GREEN and BLUE current sources or the SUB display depending on which is programmed to respond via the I2C port. Once ENRGB/S is brought high, the LTC3206 illuminates the (See Datasheet)", 11 IMS (in) "This pin controls the maximum amount of LED current in both the MAIN and SUB LED displays. The IMS pin servos to 0.6V when there is a resistor to ground. The full scale (100%) currents in the MAIN and SUB display LEDs will (See Datasheet)", 12 IRGB (in) "This pin controls the amount of LED current at the RED, GREEN and BLUE LED pins. The IRGB pin servos to 0.6V when there is a resistor to ground. The current in the RED, GREEN and BLUE LEDs will be 400 times the current at (See Datasheet)", 13 SGND (power) "Ground for the control logic. This pin should be connected directly to a low impedance ground plane.", 14 CPO (power) "Output of the Charge Pump. This output should be used to power white, blue and "ture" green LEDs. Red LEDs can be powered from VIN or CPO. An X5R or X7R low impedance (ceramic) 2.2uF charge storage capacitor is requi(See Datasheet)", 15 VIN (power) "Supply Voltage for the Charge Pump. The VIN pin should be connected directly to the battery and bypassed with a 2.2uF X5R or X7R ceramic capacitor.", 16 RED (out) "Current Source Outputs for the RGB Illuminator LEDs. The currents for the RGB LEDs are controlled by the resistor on the IRGB pin. The RGB LEDs can independently be set to any duty cycle from 0/15 through 15/15 under (See Datasheet)", 17 GREEN (out) "Current Source Outputs for the RGB Illuminator LEDs. The currents for the RGB LEDs are controlled by the resistor on the IRGB pin. The RGB LEDs can independently be set to any duty cycle from 0/15 through 15/15 under (See Datasheet)", 18 BLUE (out) "Current Source Outputs for the RGB Illuminator LEDs. The currents for the RGB LEDs are controlled by the resistor on the IRGB pin. The RGB LEDs can independently be set to any duty cycle from 0/15 through 15/15 under (See Datasheet)", 19 MAIN4 (out) "Current Source Outputs for the Main Display White LEDs. The current for the main display is controlled by the resistor on the IMS pin. The LEDs on the MAIN display can be set to 16 exponentially increasing brightness steps (See Datasheet)", 20 MAIN3 (out) "Current Source Outputs for the Main Display White LEDs. The current for the main display is controlled by the resistor on the IMS pin. The LEDs on the MAIN display can be set to 16 exponentially increasing brightness steps (See Datasheet)", 21 MAIN2 (out) "Current Source Outputs for the Main Display White LEDs. The current for the main display is controlled by the resistor on the IMS pin. The LEDs on the MAIN display can be set to 16 exponentially increasing brightness steps (See Datasheet)", 22 MAIN1 (out) "Current Source Outputs for the Main Display White LEDs. The current for the main display is controlled by the resistor on the IMS pin. The LEDs on the MAIN display can be set to 16 exponentially increasing brightness steps (See Datasheet)", 23 AUX1 (out) "Current source outputs for the auxiliary white LEDs. The auxiliary current sources can be individually assigned to be either MAIN display or SUB display LEDs via the I2C serial port. When either AUX1 and/ or AUX2 are (See Datasheet)", 24 AUX2 (out) "Current source outputs for the auxiliary white LEDs. The auxiliary current sources can be individually assigned to be either MAIN display or SUB display LEDs via the I2C serial port. When either AUX1 and/ or AUX2 are (See Datasheet)", 25 EP (power) "Power Ground for the Charge Pump. This pin should be connected directly to a low impedance ground plane."

## LTC3206EUF#PBF
designator U?
Drives 6 Main LEDs, 4 Sub Display, 1 RGB, 2.8 to 4.5 V Vin, 4.5 V Vout MAX, 24-pin QFN (UF-24), -40 to 85 degC, Pb-Free; Manufacturer: Linear Technology; PartNumber: LTC3206EUF#PBF; Topology: Charge Pump, LED Driver; Vin Min(V): 2.8; PackageVersion: Rev. B, 02/2012; PackageReference: UF24; PackageDescription: 24-Pin Plastic QFN, Body 4 x 4 mm, Pitch 0.5 mm; Supplier 1: Digi-Key; Supplier Part Number 1: LTC3206EUF#PBF-ND; Supplier 2: Farnell; Supplier Part Number 2: 1226273; RoHS: TRUE; Mounting Technology: Surface Mount; Code_JEDEC: MO-220; ComponentLink1Description: Manufacturer URL; ComponentLink1URL: http://www.linear.com/; ComponentLink2Description: Datasheet; ComponentLink2URL: http://cds.linear.com/docs/en/datasheet/3206f.pdf; ComponentLink3Description: Package Specification; ComponentLink3URL: http://cds.linear.com/docs/en/packaging/%28UF24%29%20QFN%2005-08-1697%20Rev%20B.pdf
footprint LT-UF-24_N (QFN, 24-Leads, Body 4.1x4.1mm, Pitch 0.5mm, Thermal Pad 2.45x2.45mm, IPC Medium Density)
footprint LT-UF-24_L (QFN, 24-Leads, Body 4.1x4.1mm, Pitch 0.5mm, Thermal Pad 2.45x2.45mm, IPC High Density)
footprint LT-UF-24_M (QFN, 24-Leads, Body 4.1x4.1mm, Pitch 0.5mm, Thermal Pad 2.45x2.45mm, IPC Low Density)
pins: 1 SUB1 (out) "Current Source Outputs for the SUB Display White LEDs. The current for the SUB display is controlled by the resistor on the IMS pin.The LEDs on the SUB display can be set to exponentially increasing brightness levels from 0.(See Datasheet)", 2 SUB2 (out) "Current Source Outputs for the SUB Display White LEDs. The current for the SUB display is controlled by the resistor on the IMS pin.The LEDs on the SUB display can be set to exponentially increasing brightness levels from 0.(See Datasheet)", 3 C2- "Charge Pump Flying Capacitor Pins. A 2.2uF X7R or X5R ceramic capacitor should be connected from C1+ to C1- and another from C2+ to C2-.", 4 C1- "Charge Pump Flying Capacitor Pins. A 2.2uF X7R or X5R ceramic capacitor should be connected from C1+ to C1- and another from C2+ to C2-.", 5 C1+ "Charge Pump Flying Capacitor Pins. A 2.2uF X7R or X5R ceramic capacitor should be connected from C1+ to C1- and another from C2+ to C2-.", 6 C2+ "Charge Pump Flying Capacitor Pins. A 2.2uF X7R or X5R ceramic capacitor should be connected from C1+ to C1- and another from C2+ to C2-.", 7 DVCC (power) "This pin sets the logic reference level of the SDA, SCL and ENRGB/S pins.", 8 SDA (io) "Input Data for the I2C Serial Port. Serial data is shifted in one bit per clock to control the LTC3206 (see Figures 3 and 4). The logic level for SDA is referenced to DVCC.", 9 SCL (in) "Clock Input for the I2C Serial Port (see Figures 3 and 4). The logic level for SCL is referenced to DVCC.", 10 ENRGB/S (in) "This pin is used to enable and disable either the RED, GREEN and BLUE current sources or the SUB display depending on which is programmed to respond via the I2C port. Once ENRGB/S is brought high, the LTC3206 illuminates the (See Datasheet)", 11 IMS (in) "This pin controls the maximum amount of LED current in both the MAIN and SUB LED displays. The IMS pin servos to 0.6V when there is a resistor to ground. The full scale (100%) currents in the MAIN and SUB display LEDs will (See Datasheet)", 12 IRGB (in) "This pin controls the amount of LED current at the RED, GREEN and BLUE LED pins. The IRGB pin servos to 0.6V when there is a resistor to ground. The current in the RED, GREEN and BLUE LEDs will be 400 times the current at (See Datasheet)", 13 SGND (power) "Ground for the control logic. This pin should be connected directly to a low impedance ground plane.", 14 CPO (power) "Output of the Charge Pump. This output should be used to power white, blue and "ture" green LEDs. Red LEDs can be powered from VIN or CPO. An X5R or X7R low impedance (ceramic) 2.2uF charge storage capacitor is requi(See Datasheet)", 15 VIN (power) "Supply Voltage for the Charge Pump. The VIN pin should be connected directly to the battery and bypassed with a 2.2uF X5R or X7R ceramic capacitor.", 16 RED (out) "Current Source Outputs for the RGB Illuminator LEDs. The currents for the RGB LEDs are controlled by the resistor on the IRGB pin. The RGB LEDs can independently be set to any duty cycle from 0/15 through 15/15 under (See Datasheet)", 17 GREEN (out) "Current Source Outputs for the RGB Illuminator LEDs. The currents for the RGB LEDs are controlled by the resistor on the IRGB pin. The RGB LEDs can independently be set to any duty cycle from 0/15 through 15/15 under (See Datasheet)", 18 BLUE (out) "Current Source Outputs for the RGB Illuminator LEDs. The currents for the RGB LEDs are controlled by the resistor on the IRGB pin. The RGB LEDs can independently be set to any duty cycle from 0/15 through 15/15 under (See Datasheet)", 19 MAIN4 (out) "Current Source Outputs for the Main Display White LEDs. The current for the main display is controlled by the resistor on the IMS pin. The LEDs on the MAIN display can be set to 16 exponentially increasing brightness steps (See Datasheet)", 20 MAIN3 (out) "Current Source Outputs for the Main Display White LEDs. The current for the main display is controlled by the resistor on the IMS pin. The LEDs on the MAIN display can be set to 16 exponentially increasing brightness steps (See Datasheet)", 21 MAIN2 (out) "Current Source Outputs for the Main Display White LEDs. The current for the main display is controlled by the resistor on the IMS pin. The LEDs on the MAIN display can be set to 16 exponentially increasing brightness steps (See Datasheet)", 22 MAIN1 (out) "Current Source Outputs for the Main Display White LEDs. The current for the main display is controlled by the resistor on the IMS pin. The LEDs on the MAIN display can be set to 16 exponentially increasing brightness steps (See Datasheet)", 23 AUX1 (out) "Current source outputs for the auxiliary white LEDs. The auxiliary current sources can be individually assigned to be either MAIN display or SUB display LEDs via the I2C serial port. When either AUX1 and/ or AUX2 are (See Datasheet)", 24 AUX2 (out) "Current source outputs for the auxiliary white LEDs. The auxiliary current sources can be individually assigned to be either MAIN display or SUB display LEDs via the I2C serial port. When either AUX1 and/ or AUX2 are (See Datasheet)", 25 EP (power) "Power Ground for the Charge Pump. This pin should be connected directly to a low impedance ground plane."